# Altium footprint library КОНДЕНСАТОРЫ.PcbLib: 13 footprints
Each footprint in its own frame and in the unit in brackets; x right, y up, seen from the top. Pads: shape width x height; smd on the part's side, far side on the other; paste and mask are expansions set on the pad; w line width, h text height; cw(c..) or ccw(c..) is an arc to the next point about the centre after c.
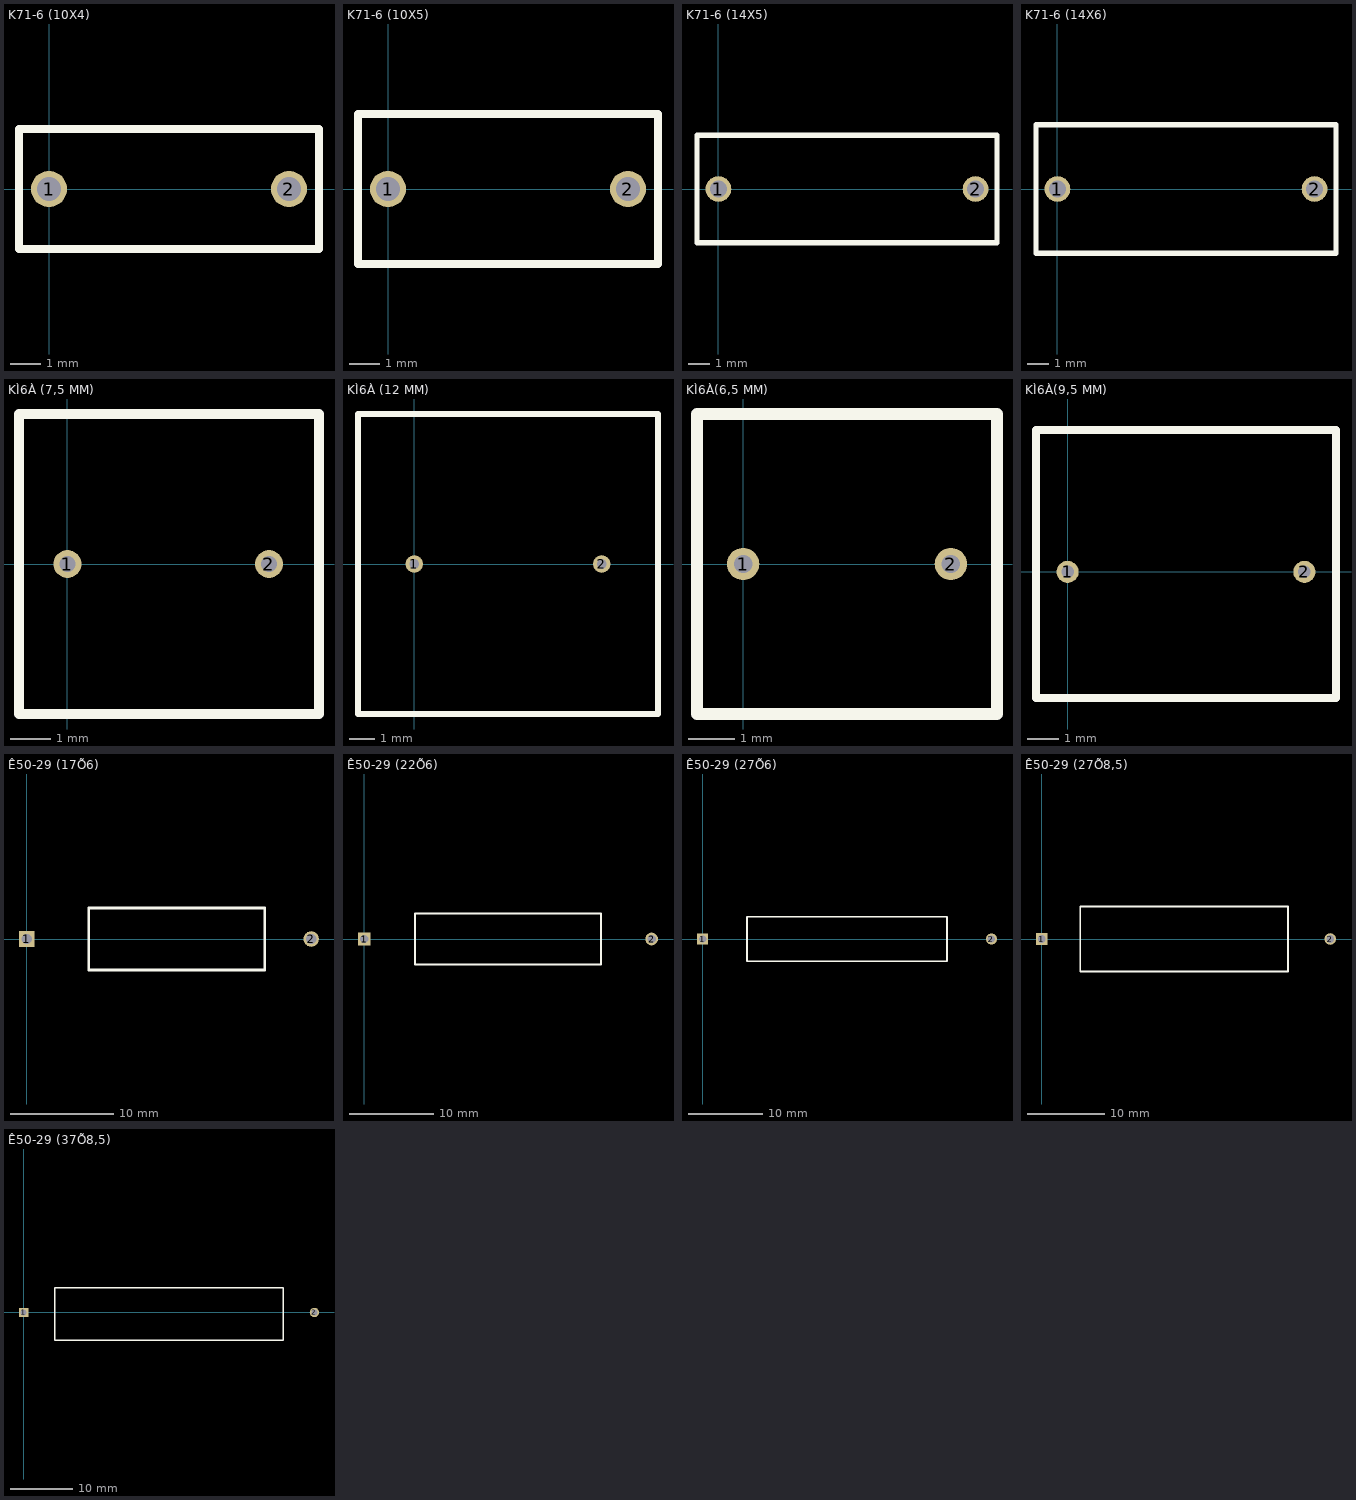
[diagram p0: the footprints below, top view; thin cyan lines are the x and y axes]

## K71-6 (10X4) [mm]
pads (2):
  round 1.2 hole 0.8: 1(0,0) 2(8,0)
Top Overlay:
  lines w0.254: -1,-2 9,-2 9,2 -1,2 -1,-2

## K71-6 (10X5) [mm]
pads (2):
  round 1.2 hole 0.8: 1(0,0) 2(8,0)
Top Overlay:
  lines w0.254: -1,-2.5 9,-2.5 9,2.5 -1,2.5 -1,-2.5

## K71-6 (14X5) [mm]
pads (2):
  round 1.2 hole 0.8: 1(0,0) 2(12,0)
Top Overlay:
  lines w0.254: -1,-2.5 13,-2.5 13,2.5 -1,2.5 -1,-2.5

## K71-6 (14X6) [mm]
pads (2):
  round 1.2 hole 0.8: 1(0,0) 2(12,0)
Top Overlay:
  lines w0.254: -1,-3 13,-3 13,3 -1,3 -1,-3

## KÌ6À (7,5 MM) [mm]
pads (2):
  round 0.7 hole 0.4: 1(0,0) 2(5.04,0)
Top Overlay:
  lines w0.254: -1.21,-3.75 6.29,-3.75 6.29,3.75 -1.21,3.75 -1.21,-3.75

## KÌ6À (12 MM) [mm]
pads (2):
  round 0.7 hole 0.4: 1(0,0) 2(7.5,0)
Top Overlay:
  lines w0.254: -2.25,-6 9.75,-6 9.75,6 -2.25,6 -2.25,-6

## KÌ6À(6,5 MM) [mm]
pads (2):
  round 0.7 hole 0.4: 1(0,0) 2(4.5,0)
Top Overlay:
  lines w0.254: -1,-3.25 5.5,-3.25 5.5,3.25 -1,3.25 -1,-3.25

## KÌ6À(9,5 MM) [mm]
pads (2):
  round 0.7 hole 0.4: 1(0,0) 2(7.5,0)
Top Overlay:
  lines w0.254: -1,-4 8.5,-4 8.5,4.5 -1,4.5 -1,-4

## Ê50-29 (17Õ6) [mm]
pads (2):
  rect 1.5x1.5 hole 1: 1(0,0)
  round 1.5 hole 1: 2(27.5,0)
Top Overlay:
  lines w0.254: 6,-3 23,-3 23,3 6,3 6,-3

## Ê50-29 (22Õ6) [mm]
pads (2):
  rect 1.5x1.5 hole 1: 1(0,0)
  round 1.5 hole 1: 2(34,0)
Top Overlay:
  lines w0.254: 6,-3 28,-3 28,3 6,3 6,-3

## Ê50-29 (27Õ6) [mm]
pads (2):
  rect 1.5x1.5 hole 1: 1(0,0)
  round 1.5 hole 1: 2(39,0)
Top Overlay:
  lines w0.254: 6,-3 33,-3 33,3 6,3 6,-3

## Ê50-29 (27Õ8,5) [mm]
pads (2):
  rect 1.5x1.5 hole 1: 1(0,0)
  round 1.5 hole 1: 2(37.5,0)
Top Overlay:
  lines w0.254: 5,-4.25 32,-4.25 32,4.25 5,4.25 5,-4.25

## Ê50-29 (37Õ8,5) [mm]
pads (2):
  rect 1.5x1.5 hole 1: 1(0,0)
  round 1.5 hole 1: 2(47,0)
Top Overlay:
  lines w0.254: 5,-4.5 42,-4.5 42,4 5,4 5,-4.5